# Altium footprint library BK8002_3254_3260_3266Õ░üÞúàADµá╝Õ╝Å.PCBLIB: 1 footprints
Each footprint in its own frame and in the unit in brackets; x right, y up, seen from the top. Pads: shape width x height; smd on the part's side, far side on the other; paste and mask are expansions set on the pad; w line width, h text height; cw(c..) or ccw(c..) is an arc to the next point about the centre after c.
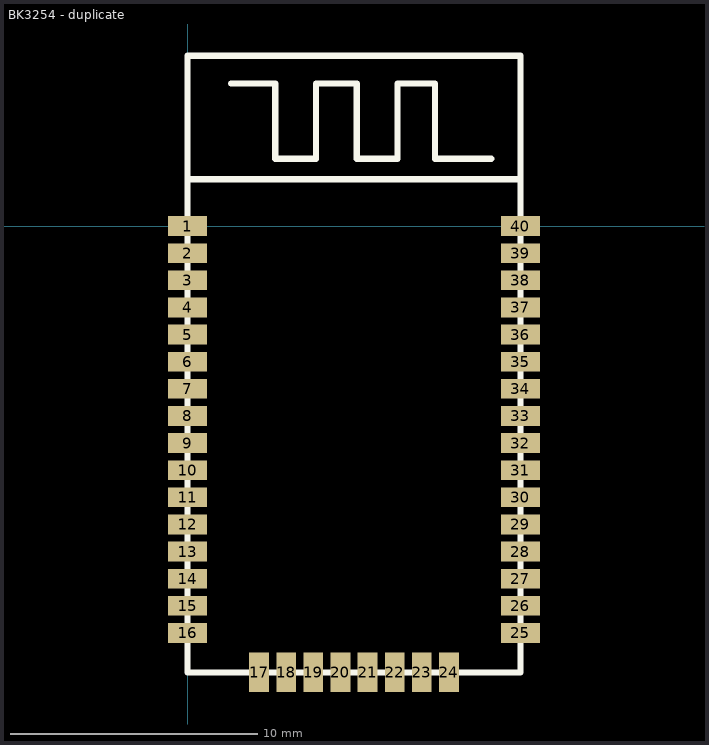
[diagram p0: the footprint, top view; thin cyan lines are the x and y axes]

## BK3254 - duplicate [mm]
pads (40):
  rect 1.6x0.8 smd mask+0.051: 1(0,0) 2(0,-1.1) 3(0,-2.2) 4(0,-3.3) 5(0,-4.4) 6(0,-5.5) 7(0,-6.6) 8(0,-7.7) 9(0,-8.8) 10(0,-9.9) 11(0,-11) 12(0,-12.1) 13(0,-13.2) 14(0,-14.3) 15(0,-15.4) 16(0,-16.5) 25(13.5,-16.5) 26(13.5,-15.4) 27(13.5,-14.3) 28(13.5,-13.2) 29(13.5,-12.1) 30(13.5,-11) 31(13.5,-9.9) 32(13.5,-8.8) 33(13.5,-7.7) 34(13.5,-6.6) 35(13.5,-5.5) 36(13.5,-4.4) 37(13.5,-3.3) 38(13.5,-2.2) 39(13.5,-1.1) 40(13.5,0)
  rect 0.8x1.6 smd mask+0.051: 17(2.9,-18.1) 18(4,-18.1) 19(5.1,-18.1) 20(6.2,-18.1) 21(7.3,-18.1) 22(8.4,-18.1) 23(9.5,-18.1) 24(10.6,-18.1)
Top Overlay:
  lines w0.254: 0,1.9 13.5,1.9 ; 1.778,5.776 3.556,5.776 3.556,2.728 5.207,2.728 5.207,5.776 6.858,5.776 6.858,2.728 8.509,2.728 8.509,5.776 10.033,5.776 10.033,2.728 12.319,2.728 ; 0,-18.1 13.5,-18.1 13.5,6.9 0,6.9 0,-18.1